# Altium footprint library ESMIT4180A.PcbLib: 1 footprints
Each footprint in its own frame and in the unit in brackets; x right, y up, seen from the top. Pads: shape width x height; smd on the part's side, far side on the other; paste and mask are expansions set on the pad; w line width, h text height; cw(c..) or ccw(c..) is an arc to the next point about the centre after c.
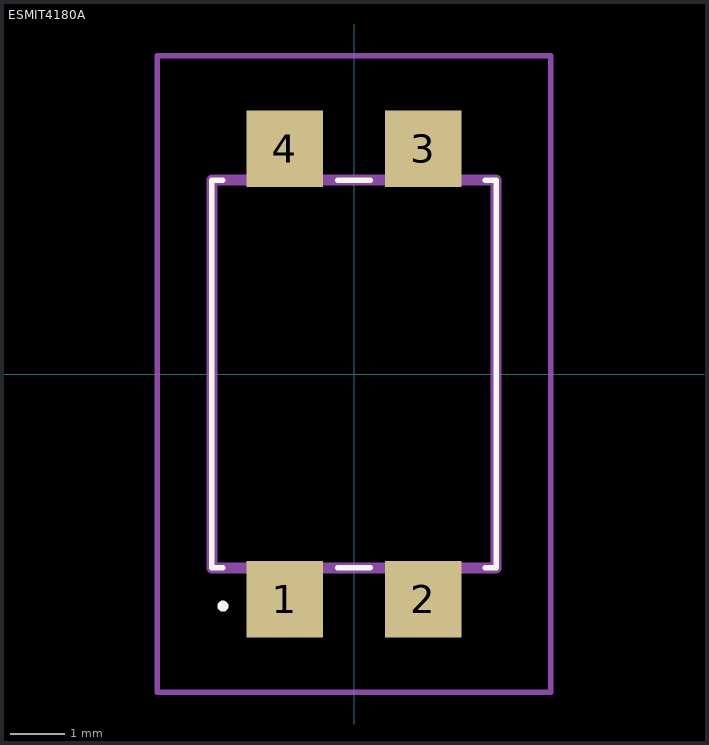
[diagram p0: the footprint, top view; thin cyan lines are the x and y axes]

## ESMIT4180A [mm]
pads (4):
  rect 1.4x1.4 smd: 1(-1.27,-4.125) 2(1.27,-4.125) 3(1.27,4.125) 4(-1.27,4.125)
Top Overlay:
  lines w0.1: -2.4,-3.55 -2.6,-3.55 -2.6,3.55 -2.4,3.55 ; -0.3,-3.55 0.3,-3.55 ; -0.3,3.55 0.3,3.55 ; 2.4,-3.55 2.6,-3.55 2.6,3.55 2.4,3.55 ; -2.4,-4.3 cw(c-2.4,-4.25) -2.4,-4.2 ; -2.4,-4.3 -2.4,-4.3 ; -2.4,-4.3 ccw(c-2.4,-4.25) -2.4,-4.2 ; -2.4,-4.2 -2.4,-4.2
Mechanical 15:
  lines w0.2: -2.6,-3.55 2.6,-3.55 2.6,3.55 -2.6,3.55 -2.6,-3.55
Mechanical 20:
  lines w0.1: -3.6,-5.825 3.6,-5.825 3.6,5.825 -3.6,5.825 -3.6,-5.825